# EAGLE library part ADS78XX (library Synapseware-transistors)
12-Bit High Speed Low Power Sampling ANALOG-TO-DIGITAL CONVERTER The ADS7818 is a 12-bit sampling analog-to-digital converter (A/D) complete with sample/hold, internal 2.5V reference, and synchronous serial interface. Typi- cal power dissipation is 11mW at a 500kHz through- put rate. The device can be placed into a power down mode which reduces dissipation to just 2.5mW. The input range is zero to two times the reference voltage, and the internal reference can be overdriven by an external voltage.
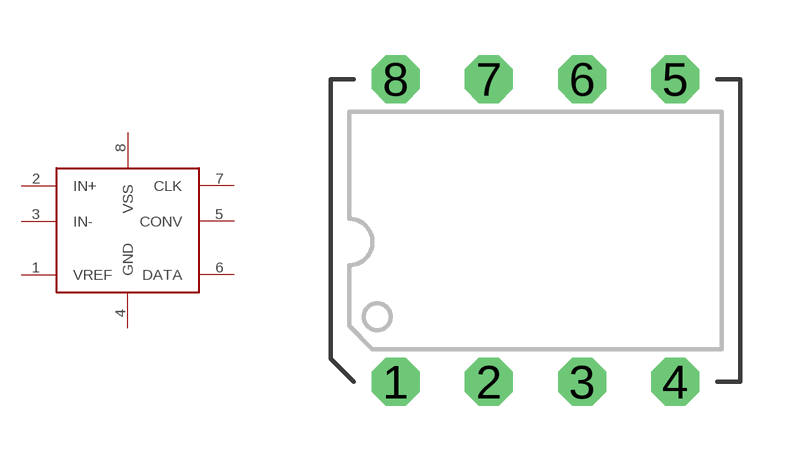
[diagram p27: symbol with the pads of PDIP-8; footprint PDIP-8]

Designator prefix -

## ADS78XX  [PDIP-8]
1  VREF
2  IN+
3  IN-
4  GND
5  CONV
6  DATA
7  CLK
8  VSS

## Footprint PDIP-8 (pad centres in mm)
PDIP-8
drill 0.8 octagon: 1 0,0; 2 2.54,0; 3 5.08,0; 4 7.62,0; 5 7.62,8.255; 6 5.08,8.255; 7 2.54,8.255; 8 0,8.255